# Altium integrated library NSC Interface Line Transceiver.IntLib: 158 symbols (part 1 of 4)
Pins are listed as number, name and electrical type; pins without a type are passive.

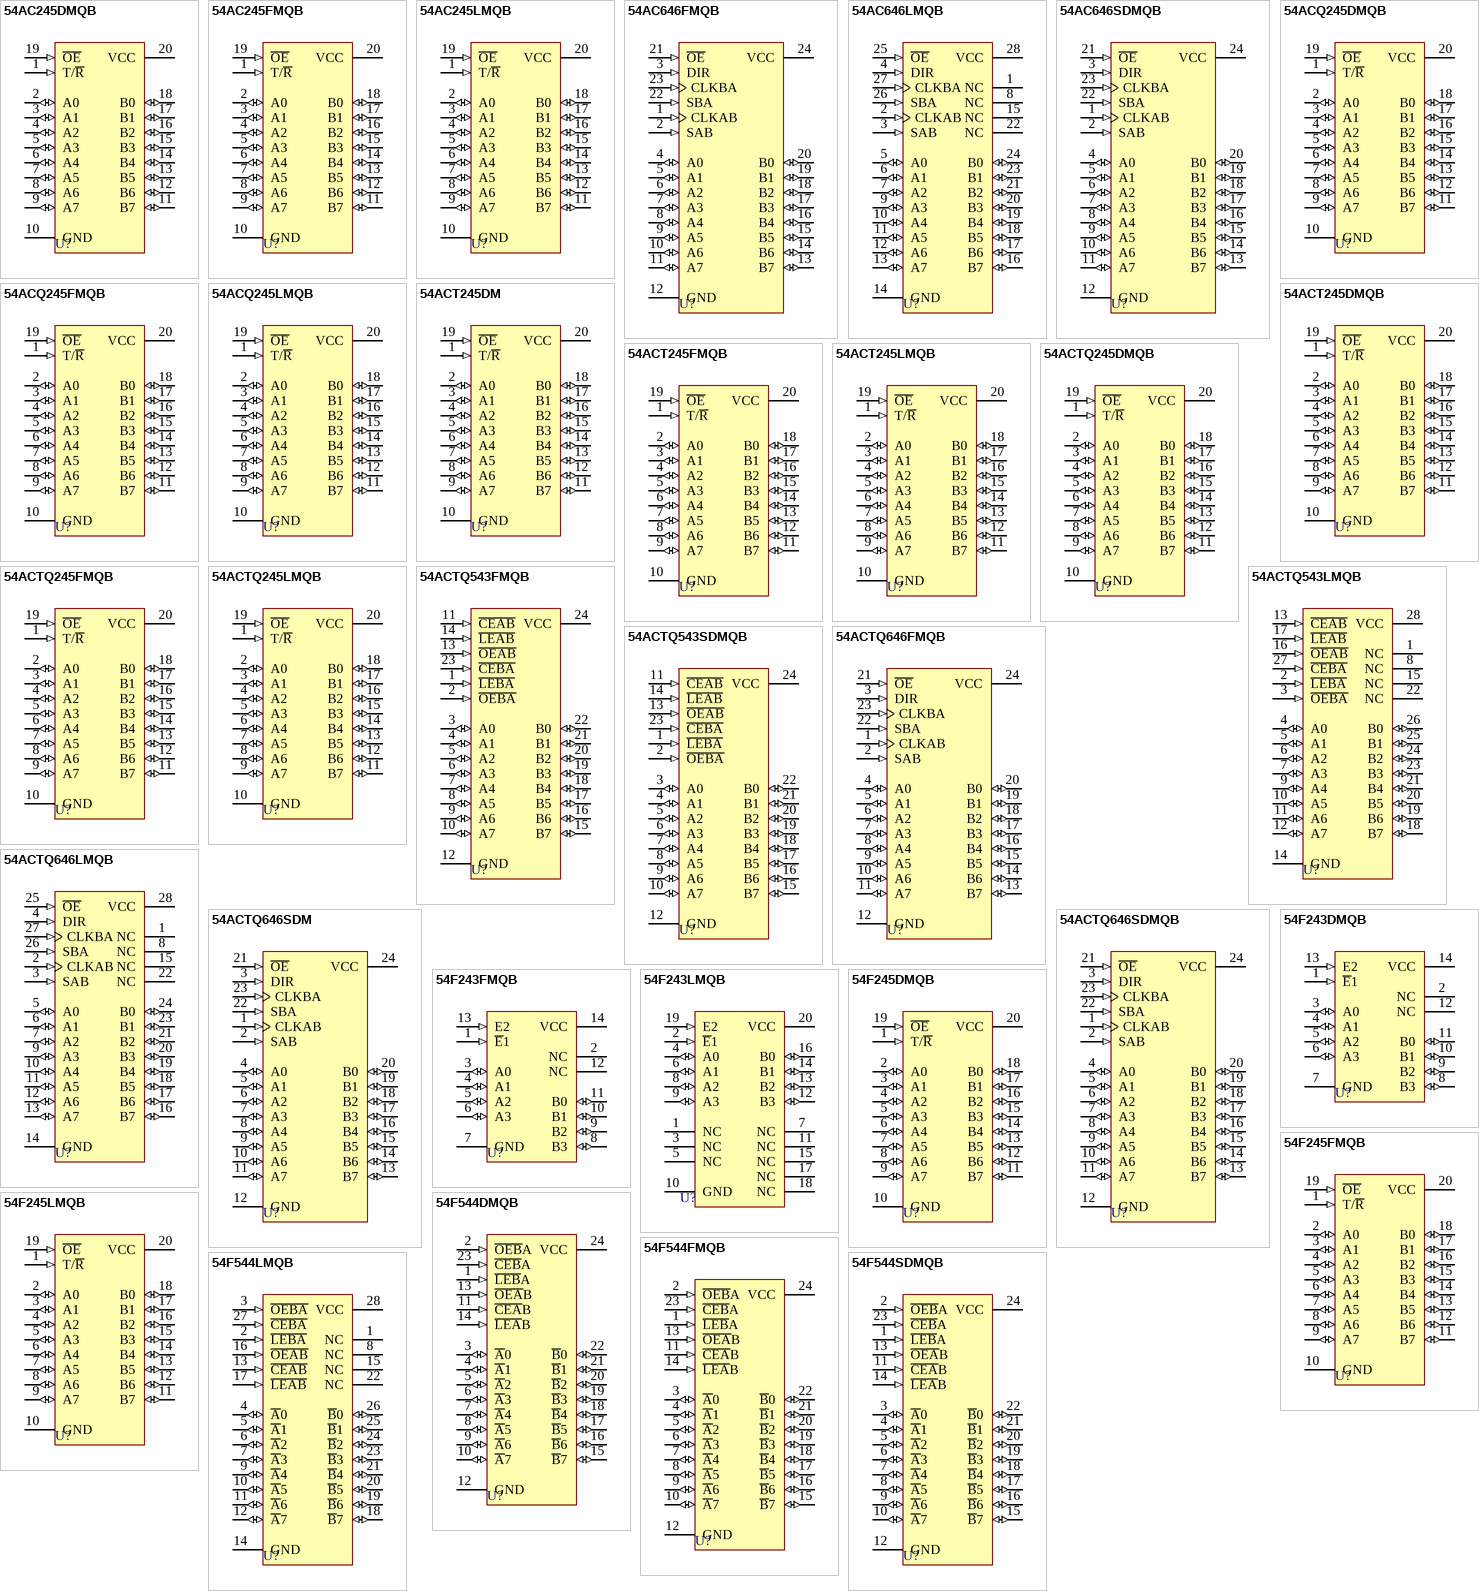
[diagram p0: symbols 54AC245DMQB to 54F544SDMQB]

## 54AC245DMQB
designator U?
Octal Bidirectional Transceiver with Tri-State Input/Output; Published: 15-Apr-2002; LatestRevisionDate: 06-Jun-2005; LatestRevisionNote: Stylized 3D Model Added.; DatasheetVersion: Jun-1996; PackageVersion: 2000; PackageReference: J20A; Publisher: Altium Limited; PackageDescription: DIP; 20 Leads; Row Spacing 7.62 mm; Pitch 2.54 mm; Code_JEDEC: MS-015-AE; ComponentLink1Description: Manufacturer Link; ComponentLink1URL: http://www.national.com/; ComponentLink2Description: Datasheet; ComponentLink2URL: http://www.national.com/ds.cgi/54/54AC245.pdf; ComponentLink3Description: URL Link1; ComponentLink3URL: http://www.national.com/pf/54/54AC245.html
footprint J20A (DIP; 20 Leads; Row Spacing 7.62 mm; Pitch 2.54 mm)
3D model J20A (DIP; 20 Leads; Row Spacing 7.62 mm; Pitch 2.54 mm)
signal-integrity model 54AC245DMQB
pins: 1 T/~{R} (in), 2 A0 (io), 3 A1 (io), 4 A2 (io), 5 A3 (io), 6 A4 (io), 7 A5 (io), 8 A6 (io), 9 A7 (io), 10 GND (power), 11 B7 (io), 12 B6 (io), 13 B5 (io), 14 B4 (io), 15 B3 (io), 16 B2 (io), 17 B1 (io), 18 B0 (io), 19 ~{OE} (in), 20 VCC (power)

## 54AC245FMQB
designator U?
Octal Bidirectional Transceiver with Tri-State Input/Output; Published: 15-Apr-2002; LatestRevisionDate: 06-Jun-2005; LatestRevisionNote: Stylized 3D Model Added.; DatasheetVersion: Jun-1996; PackageVersion: 2000; PackageReference: W20A; Publisher: Altium Limited; PackageDescription: DFP; 20 Leads; Body 13.7 x 7.2 mm (LxW max); Pitch 1.27 mm; ComponentLink1Description: Manufacturer Link; ComponentLink1URL: http://www.national.com/; ComponentLink2Description: Datasheet; ComponentLink2URL: http://www.national.com/ds.cgi/54/54AC245.pdf; ComponentLink3Description: URL Link1; ComponentLink3URL: http://www.national.com/pf/54/54AC245.html
footprint W20A (DFP; 20 Leads; Body 13.7 x 7.2 mm (LxW max); Pitch 1.27 mm)
3D model W20A (DFP; 20 Leads; Body 13.7 x 7.2 mm (LxW max); Pitch 1.27 mm)
signal-integrity model 54AC245FMQB
pins: 1 T/~{R} (in), 2 A0 (io), 3 A1 (io), 4 A2 (io), 5 A3 (io), 6 A4 (io), 7 A5 (io), 8 A6 (io), 9 A7 (io), 10 GND (power), 11 B7 (io), 12 B6 (io), 13 B5 (io), 14 B4 (io), 15 B3 (io), 16 B2 (io), 17 B1 (io), 18 B0 (io), 19 ~{OE} (in), 20 VCC (power)

## 54AC245LMQB
designator U?
Octal Bidirectional Transceiver with Tri-State Input/Output; Published: 15-Apr-2002; LatestRevisionDate: 11-Oct-2004; LatestRevisionNote: SIM Model for 74F device removed.; DatasheetVersion: Jun-1996; PackageVersion: 2000; PackageReference: E20A; Publisher: Altium Limited; PackageDescription: Leadless Chip Carrier; 20 Terminals; Body 8.9 x 8.9 mm; ComponentLink1Description: Manufacturer Link; ComponentLink1URL: http://www.national.com/; ComponentLink2Description: Datasheet; ComponentLink2URL: http://www.national.com/ds.cgi/54/54AC245.pdf; ComponentLink3Description: URL Link1; ComponentLink3URL: http://www.national.com/pf/54/54AC245.html
footprint E20A (Leadless Chip Carrier; 20 Terminals; Body 8.9 x 8.9 mm)
signal-integrity model 54AC245LMQB
pins: 1 T/~{R} (in), 2 A0 (io), 3 A1 (io), 4 A2 (io), 5 A3 (io), 6 A4 (io), 7 A5 (io), 8 A6 (io), 9 A7 (io), 10 GND (power), 11 B7 (io), 12 B6 (io), 13 B5 (io), 14 B4 (io), 15 B3 (io), 16 B2 (io), 17 B1 (io), 18 B0 (io), 19 ~{OE} (in), 20 VCC (power)

## 54AC646FMQB
designator U?
Octal Transceiver/Register with Tri-State Output; Published: 15-Apr-2002; LatestRevisionDate: 06-Jun-2005; LatestRevisionNote: Stylized 3D Model Added.; DatasheetVersion: Aug-1998; PackageVersion: 2000; PackageReference: W24C; Publisher: Altium Limited; PackageDescription: DFP; 24 Leads; Body 15.6 x 10.7 mm (LxW max); Pitch 1.27 mm; ComponentLink1Description: Manufacturer Link; ComponentLink1URL: http://www.national.com/; ComponentLink2Description: Datasheet; ComponentLink2URL: http://www.national.com/ds.cgi/54/54AC646.pdf; ComponentLink3Description: URL Link1; ComponentLink3URL: http://www.national.com/pf/54/54AC646.html
footprint W24C (DFP; 24 Leads; Body 15.6 x 10.7 mm (LxW max); Pitch 1.27 mm)
3D model W24C (DFP; 24 Leads; Body 15.6 x 10.7 mm (LxW max); Pitch 1.27 mm)
signal-integrity model 54AC646FMQB
pins: 1 CLKAB (in), 2 SAB (in), 3 DIR (in), 4 A0 (io), 5 A1 (io), 6 A2 (io), 7 A3 (io), 8 A4 (io), 9 A5 (io), 10 A6 (io), 11 A7 (io), 12 GND (power), 13 B7 (io), 14 B6 (io), 15 B5 (io), 16 B4 (io), 17 B3 (io), 18 B2 (io), 19 B1 (io), 20 B0 (io), 21 ~{OE} (in), 22 SBA (in), 23 CLKBA (in), 24 VCC (power)

## 54AC646LMQB
designator U?
Octal Transceiver/Register with Tri-State Output; ComponentAvailability: Obsolete; Published: 15-Apr-2002; DatasheetVersion: Aug-1998; PackageVersion: 2000; PackageReference: E28A; Publisher: Altium Limited; PackageDescription: Leadless Chip Carrier; 28 Terminals; Body 11.4 x 11.4 mm; ComponentLink1Description: Manufacturer Link; ComponentLink1URL: http://www.national.com/; ComponentLink2Description: Datasheet; ComponentLink2URL: http://www.national.com/ds.cgi/54/54AC646.pdf; ComponentLink3Description: Discontinuation Notice; ComponentLink3URL: http://www.national.com/obs/obsolescence.txt; ComponentLink4Description: URL Link1; ComponentLink4URL: http://www.national.com/pf/54/54AC646.html
footprint E28A (Leadless Chip Carrier; 28 Terminals; Body 11.4 x 11.4 mm)
signal-integrity model 54AC646LMQB
pins: 1 NC, 2 CLKAB (in), 3 SAB (in), 4 DIR (in), 5 A0 (io), 6 A1 (io), 7 A2 (io), 8 NC, 9 A3 (io), 10 A4 (io), 11 A5 (io), 12 A6 (io), 13 A7 (io), 14 GND (power), 15 NC, 16 B7 (io), 17 B6 (io), 18 B5 (io), 19 B4 (io), 20 B3 (io), 21 B2 (io), 22 NC, 23 B1 (io), 24 B0 (io), 25 ~{OE} (in), 26 SBA (in), 27 CLKBA (in), 28 VCC (power)

## 54AC646SDMQB
designator U?
Octal Transceiver/Register with Tri-State Output; Published: 15-Apr-2002; LatestRevisionDate: 06-Jun-2005; LatestRevisionNote: Stylized 3D Model Added.; DatasheetVersion: Aug-1998; PackageVersion: 2000; PackageReference: J24F; Publisher: Altium Limited; PackageDescription: DIP; 24 Leads; Row Spacing 7.62 mm; Pitch 2.54 mm; Code_JEDEC: MS-001-AF; ComponentLink1Description: Manufacturer Link; ComponentLink1URL: http://www.national.com/; ComponentLink2Description: Datasheet; ComponentLink2URL: http://www.national.com/ds.cgi/54/54AC646.pdf; ComponentLink3Description: URL Link1; ComponentLink3URL: http://www.national.com/pf/54/54AC646.html
footprint J24F (DIP; 24 Leads; Row Spacing 7.62 mm; Pitch 2.54 mm)
3D model J24F (DIP; 24 Leads; Row Spacing 7.62 mm; Pitch 2.54 mm)
signal-integrity model 54AC646SDMQB
pins: 1 CLKAB (in), 2 SAB (in), 3 DIR (in), 4 A0 (io), 5 A1 (io), 6 A2 (io), 7 A3 (io), 8 A4 (io), 9 A5 (io), 10 A6 (io), 11 A7 (io), 12 GND (power), 13 B7 (io), 14 B6 (io), 15 B5 (io), 16 B4 (io), 17 B3 (io), 18 B2 (io), 19 B1 (io), 20 B0 (io), 21 ~{OE} (in), 22 SBA (in), 23 CLKBA (in), 24 VCC (power)

## 54ACQ245DMQB
designator U?
Octal Bidirectional Transceiver with Tri-State Input/Output; Published: 15-Apr-2002; LatestRevisionDate: 06-Jun-2005; LatestRevisionNote: Stylized 3D Model Added.; DatasheetVersion: Sep-1998; PackageVersion: 2000; PackageReference: J20A; Publisher: Altium Limited; PackageDescription: DIP; 20 Leads; Row Spacing 7.62 mm; Pitch 2.54 mm; Code_JEDEC: MS-015-AE; ComponentLink1Description: Manufacturer Link; ComponentLink1URL: http://www.national.com/; ComponentLink2Description: Datasheet; ComponentLink2URL: http://www.national.com/ds.cgi/54/54ACQ245.pdf; ComponentLink3Description: URL Link1; ComponentLink3URL: http://www.national.com/pf/54/54ACQ245.html
footprint J20A (DIP; 20 Leads; Row Spacing 7.62 mm; Pitch 2.54 mm)
3D model J20A (DIP; 20 Leads; Row Spacing 7.62 mm; Pitch 2.54 mm)
pins: 1 T/~{R} (in), 2 A0 (io), 3 A1 (io), 4 A2 (io), 5 A3 (io), 6 A4 (io), 7 A5 (io), 8 A6 (io), 9 A7 (io), 10 GND (power), 11 B7 (io), 12 B6 (io), 13 B5 (io), 14 B4 (io), 15 B3 (io), 16 B2 (io), 17 B1 (io), 18 B0 (io), 19 ~{OE} (in), 20 VCC (power)

## 54ACQ245FMQB
designator U?
Octal Bidirectional Transceiver with Tri-State Input/Output; Published: 15-Apr-2002; LatestRevisionDate: 06-Jun-2005; LatestRevisionNote: Stylized 3D Model Added.; DatasheetVersion: Sep-1998; PackageVersion: 2000; PackageReference: W20A; Publisher: Altium Limited; PackageDescription: DFP; 20 Leads; Body 13.7 x 7.2 mm (LxW max); Pitch 1.27 mm; ComponentLink1Description: Manufacturer Link; ComponentLink1URL: http://www.national.com/; ComponentLink2Description: Datasheet; ComponentLink2URL: http://www.national.com/ds.cgi/54/54ACQ245.pdf; ComponentLink3Description: URL Link1; ComponentLink3URL: http://www.national.com/pf/54/54ACQ245.html
footprint W20A (DFP; 20 Leads; Body 13.7 x 7.2 mm (LxW max); Pitch 1.27 mm)
3D model W20A (DFP; 20 Leads; Body 13.7 x 7.2 mm (LxW max); Pitch 1.27 mm)
pins: 1 T/~{R} (in), 2 A0 (io), 3 A1 (io), 4 A2 (io), 5 A3 (io), 6 A4 (io), 7 A5 (io), 8 A6 (io), 9 A7 (io), 10 GND (power), 11 B7 (io), 12 B6 (io), 13 B5 (io), 14 B4 (io), 15 B3 (io), 16 B2 (io), 17 B1 (io), 18 B0 (io), 19 ~{OE} (in), 20 VCC (power)

## 54ACQ245LMQB
designator U?
Octal Bidirectional Transceiver with Tri-State Input/Output; Published: 15-Apr-2002; LatestRevisionDate: 11-Oct-2004; LatestRevisionNote: SIM Model for 74F device removed.; DatasheetVersion: Sep-1998; PackageVersion: 2000; PackageReference: E20A; Publisher: Altium Limited; PackageDescription: Leadless Chip Carrier; 20 Terminals; Body 8.9 x 8.9 mm; ComponentLink1Description: Manufacturer Link; ComponentLink1URL: http://www.national.com/; ComponentLink2Description: Datasheet; ComponentLink2URL: http://www.national.com/ds.cgi/54/54ACQ245.pdf; ComponentLink3Description: URL Link1; ComponentLink3URL: http://www.national.com/pf/54/54ACQ245.html
footprint E20A (Leadless Chip Carrier; 20 Terminals; Body 8.9 x 8.9 mm)
pins: 1 T/~{R} (in), 2 A0 (io), 3 A1 (io), 4 A2 (io), 5 A3 (io), 6 A4 (io), 7 A5 (io), 8 A6 (io), 9 A7 (io), 10 GND (power), 11 B7 (io), 12 B6 (io), 13 B5 (io), 14 B4 (io), 15 B3 (io), 16 B2 (io), 17 B1 (io), 18 B0 (io), 19 ~{OE} (in), 20 VCC (power)

## 54ACT245DM
designator U?
Octal Bidirectional Transceiver with Tri-State Input/Output; ComponentAvailability: Obsolete; Published: 15-Apr-2002; LatestRevisionDate: 06-Jun-2005; LatestRevisionNote: Stylized 3D Model Added.; DatasheetVersion: Jun-1996; PackageVersion: 2000; PackageReference: J20A; Publisher: Altium Limited; PackageDescription: DIP; 20 Leads; Row Spacing 7.62 mm; Pitch 2.54 mm; Code_JEDEC: MS-015-AE; ComponentLink1Description: Manufacturer Link; ComponentLink1URL: http://www.national.com/; ComponentLink2Description: Datasheet; ComponentLink2URL: http://www.national.com/ds.cgi/54/54AC245.pdf; ComponentLink3Description: Discontinuation Notice; ComponentLink3URL: http://www.national.com/obs/obsolescence.txt; ComponentLink4Description: URL Link1; ComponentLink4URL: http://www.national.com/pf/54/54ACT245.html
footprint J20A (DIP; 20 Leads; Row Spacing 7.62 mm; Pitch 2.54 mm)
3D model J20A (DIP; 20 Leads; Row Spacing 7.62 mm; Pitch 2.54 mm)
signal-integrity model 54ACT245DM
pins: 1 T/~{R} (in), 2 A0 (io), 3 A1 (io), 4 A2 (io), 5 A3 (io), 6 A4 (io), 7 A5 (io), 8 A6 (io), 9 A7 (io), 10 GND (power), 11 B7 (io), 12 B6 (io), 13 B5 (io), 14 B4 (io), 15 B3 (io), 16 B2 (io), 17 B1 (io), 18 B0 (io), 19 ~{OE} (in), 20 VCC (power)

## 54ACT245DMQB
designator U?
Octal Bidirectional Transceiver with Tri-State Input/Output; Published: 15-Apr-2002; LatestRevisionDate: 06-Jun-2005; LatestRevisionNote: Stylized 3D Model Added.; DatasheetVersion: Jun-1996; PackageVersion: 2000; PackageReference: J20A; Publisher: Altium Limited; PackageDescription: DIP; 20 Leads; Row Spacing 7.62 mm; Pitch 2.54 mm; Code_JEDEC: MS-015-AE; ComponentLink1Description: Manufacturer Link; ComponentLink1URL: http://www.national.com/; ComponentLink2Description: Datasheet; ComponentLink2URL: http://www.national.com/ds.cgi/54/54AC245.pdf; ComponentLink3Description: URL Link1; ComponentLink3URL: http://www.national.com/pf/54/54ACT245.html
footprint J20A (DIP; 20 Leads; Row Spacing 7.62 mm; Pitch 2.54 mm)
3D model J20A (DIP; 20 Leads; Row Spacing 7.62 mm; Pitch 2.54 mm)
signal-integrity model 54ACT245DMQB
pins: 1 T/~{R} (in), 2 A0 (io), 3 A1 (io), 4 A2 (io), 5 A3 (io), 6 A4 (io), 7 A5 (io), 8 A6 (io), 9 A7 (io), 10 GND (power), 11 B7 (io), 12 B6 (io), 13 B5 (io), 14 B4 (io), 15 B3 (io), 16 B2 (io), 17 B1 (io), 18 B0 (io), 19 ~{OE} (in), 20 VCC (power)

## 54ACT245FMQB
designator U?
Octal Bidirectional Transceiver with Tri-State Input/Output; Published: 15-Apr-2002; LatestRevisionDate: 06-Jun-2005; LatestRevisionNote: Stylized 3D Model Added.; DatasheetVersion: Jun-1996; PackageVersion: 2000; PackageReference: W20A; Publisher: Altium Limited; PackageDescription: DFP; 20 Leads; Body 13.7 x 7.2 mm (LxW max); Pitch 1.27 mm; ComponentLink1Description: Manufacturer Link; ComponentLink1URL: http://www.national.com/; ComponentLink2Description: Datasheet; ComponentLink2URL: http://www.national.com/ds.cgi/54/54AC245.pdf; ComponentLink3Description: URL Link1; ComponentLink3URL: http://www.national.com/pf/54/54ACT245.html
footprint W20A (DFP; 20 Leads; Body 13.7 x 7.2 mm (LxW max); Pitch 1.27 mm)
3D model W20A (DFP; 20 Leads; Body 13.7 x 7.2 mm (LxW max); Pitch 1.27 mm)
signal-integrity model 54ACT245FMQB
pins: 1 T/~{R} (in), 2 A0 (io), 3 A1 (io), 4 A2 (io), 5 A3 (io), 6 A4 (io), 7 A5 (io), 8 A6 (io), 9 A7 (io), 10 GND (power), 11 B7 (io), 12 B6 (io), 13 B5 (io), 14 B4 (io), 15 B3 (io), 16 B2 (io), 17 B1 (io), 18 B0 (io), 19 ~{OE} (in), 20 VCC (power)

## 54ACT245LMQB
designator U?
Octal Bidirectional Transceiver with Tri-State Input/Output; Published: 15-Apr-2002; LatestRevisionDate: 11-Oct-2004; LatestRevisionNote: SIM Model for 74F device removed.; DatasheetVersion: Jun-1996; PackageVersion: 2000; PackageReference: E20A; Publisher: Altium Limited; PackageDescription: Leadless Chip Carrier; 20 Terminals; Body 8.9 x 8.9 mm; ComponentLink1Description: Manufacturer Link; ComponentLink1URL: http://www.national.com/; ComponentLink2Description: Datasheet; ComponentLink2URL: http://www.national.com/ds.cgi/54/54AC245.pdf; ComponentLink3Description: URL Link1; ComponentLink3URL: http://www.national.com/pf/54/54ACT245.html
footprint E20A (Leadless Chip Carrier; 20 Terminals; Body 8.9 x 8.9 mm)
signal-integrity model 54ACT245LMQB
pins: 1 T/~{R} (in), 2 A0 (io), 3 A1 (io), 4 A2 (io), 5 A3 (io), 6 A4 (io), 7 A5 (io), 8 A6 (io), 9 A7 (io), 10 GND (power), 11 B7 (io), 12 B6 (io), 13 B5 (io), 14 B4 (io), 15 B3 (io), 16 B2 (io), 17 B1 (io), 18 B0 (io), 19 ~{OE} (in), 20 VCC (power)

## 54ACTQ245DMQB
designator U?
Octal Bidirectional Transceiver with Tri-State Input/Output; Published: 15-Apr-2002; LatestRevisionDate: 06-Jun-2005; LatestRevisionNote: Stylized 3D Model Added.; DatasheetVersion: Sep-1998; PackageVersion: 2000; PackageReference: J20A; Publisher: Altium Limited; PackageDescription: DIP; 20 Leads; Row Spacing 7.62 mm; Pitch 2.54 mm; Code_JEDEC: MS-015-AE; ComponentLink1Description: Manufacturer Link; ComponentLink1URL: http://www.national.com/; ComponentLink2Description: Datasheet; ComponentLink2URL: http://www.national.com/ds.cgi/54/54ACQ245.pdf; ComponentLink3Description: URL Link1; ComponentLink3URL: http://www.national.com/pf/54/54ACTQ245.html
footprint J20A (DIP; 20 Leads; Row Spacing 7.62 mm; Pitch 2.54 mm)
3D model J20A (DIP; 20 Leads; Row Spacing 7.62 mm; Pitch 2.54 mm)
pins: 1 T/~{R} (in), 2 A0 (io), 3 A1 (io), 4 A2 (io), 5 A3 (io), 6 A4 (io), 7 A5 (io), 8 A6 (io), 9 A7 (io), 10 GND (power), 11 B7 (io), 12 B6 (io), 13 B5 (io), 14 B4 (io), 15 B3 (io), 16 B2 (io), 17 B1 (io), 18 B0 (io), 19 ~{OE} (in), 20 VCC (power)

## 54ACTQ245FMQB
designator U?
Octal Bidirectional Transceiver with Tri-State Input/Output; Published: 15-Apr-2002; LatestRevisionDate: 06-Jun-2005; LatestRevisionNote: Stylized 3D Model Added.; DatasheetVersion: Sep-1998; PackageVersion: 2000; PackageReference: W20A; Publisher: Altium Limited; PackageDescription: DFP; 20 Leads; Body 13.7 x 7.2 mm (LxW max); Pitch 1.27 mm; ComponentLink1Description: Manufacturer Link; ComponentLink1URL: http://www.national.com/; ComponentLink2Description: Datasheet; ComponentLink2URL: http://www.national.com/ds.cgi/54/54ACQ245.pdf; ComponentLink3Description: URL Link1; ComponentLink3URL: http://www.national.com/pf/54/54ACTQ245.html
footprint W20A (DFP; 20 Leads; Body 13.7 x 7.2 mm (LxW max); Pitch 1.27 mm)
3D model W20A (DFP; 20 Leads; Body 13.7 x 7.2 mm (LxW max); Pitch 1.27 mm)
pins: 1 T/~{R} (in), 2 A0 (io), 3 A1 (io), 4 A2 (io), 5 A3 (io), 6 A4 (io), 7 A5 (io), 8 A6 (io), 9 A7 (io), 10 GND (power), 11 B7 (io), 12 B6 (io), 13 B5 (io), 14 B4 (io), 15 B3 (io), 16 B2 (io), 17 B1 (io), 18 B0 (io), 19 ~{OE} (in), 20 VCC (power)

## 54ACTQ245LMQB
designator U?
Octal Bidirectional Transceiver with Tri-State Input/Output; Published: 15-Apr-2002; LatestRevisionDate: 11-Oct-2004; LatestRevisionNote: SIM Model for 74F device removed.; DatasheetVersion: Sep-1998; PackageVersion: 2000; PackageReference: E20A; Publisher: Altium Limited; PackageDescription: Leadless Chip Carrier; 20 Terminals; Body 8.9 x 8.9 mm; ComponentLink1Description: Manufacturer Link; ComponentLink1URL: http://www.national.com/; ComponentLink2Description: Datasheet; ComponentLink2URL: http://www.national.com/ds.cgi/54/54ACQ245.pdf; ComponentLink3Description: URL Link1; ComponentLink3URL: http://www.national.com/pf/54/54ACTQ245.html
footprint E20A (Leadless Chip Carrier; 20 Terminals; Body 8.9 x 8.9 mm)
pins: 1 T/~{R} (in), 2 A0 (io), 3 A1 (io), 4 A2 (io), 5 A3 (io), 6 A4 (io), 7 A5 (io), 8 A6 (io), 9 A7 (io), 10 GND (power), 11 B7 (io), 12 B6 (io), 13 B5 (io), 14 B4 (io), 15 B3 (io), 16 B2 (io), 17 B1 (io), 18 B0 (io), 19 ~{OE} (in), 20 VCC (power)

## 54ACTQ543FMQB
designator U?
Octal Registered Transceiver with Tri-State Output; Published: 15-Apr-2002; LatestRevisionDate: 06-Jun-2005; LatestRevisionNote: Stylized 3D Model Added.; DatasheetVersion: Mar-1993; PackageVersion: 2000; PackageReference: W24C; Publisher: Altium Limited; PackageDescription: DFP; 24 Leads; Body 15.6 x 10.7 mm (LxW max); Pitch 1.27 mm; ComponentLink1Description: Manufacturer Link; ComponentLink1URL: http://www.national.com/; ComponentLink2Description: Datasheet; ComponentLink2URL: http://www.national.com/ds.cgi/54/54ACTQ543.pdf; ComponentLink3Description: URL Link1; ComponentLink3URL: http://www.national.com/pf/54/54ACTQ543.html
footprint W24C (DFP; 24 Leads; Body 15.6 x 10.7 mm (LxW max); Pitch 1.27 mm)
3D model W24C (DFP; 24 Leads; Body 15.6 x 10.7 mm (LxW max); Pitch 1.27 mm)
pins: 1 ~{LEBA} (in), 2 ~{OEBA} (in), 3 A0 (io), 4 A1 (io), 5 A2 (io), 6 A3 (io), 7 A4 (io), 8 A5 (io), 9 A6 (io), 10 A7 (io), 11 ~{CEAB} (in), 12 GND (power), 13 ~{OEAB} (in), 14 ~{LEAB} (in), 15 B7 (io), 16 B6 (io), 17 B5 (io), 18 B4 (io), 19 B3 (io), 20 B2 (io), 21 B1 (io), 22 B0 (io), 23 ~{CEBA} (in), 24 VCC (power)

## 54ACTQ543LMQB
designator U?
Octal Registered Transceiver with Tri-State Output; Published: 15-Apr-2002; DatasheetVersion: Mar-1993; PackageVersion: 2000; PackageReference: E28A; Publisher: Altium Limited; PackageDescription: Leadless Chip Carrier; 28 Terminals; Body 11.4 x 11.4 mm; ComponentLink1Description: Manufacturer Link; ComponentLink1URL: http://www.national.com/; ComponentLink2Description: Datasheet; ComponentLink2URL: http://www.national.com/ds.cgi/54/54ACTQ543.pdf; ComponentLink3Description: URL Link1; ComponentLink3URL: http://www.national.com/pf/54/54ACTQ543.html
footprint E28A (Leadless Chip Carrier; 28 Terminals; Body 11.4 x 11.4 mm)
pins: 1 NC, 2 ~{LEBA} (in), 3 ~{OEBA} (in), 4 A0 (io), 5 A1 (io), 6 A2 (io), 7 A3 (io), 8 NC, 9 A4 (io), 10 A5 (io), 11 A6 (io), 12 A7 (io), 13 ~{CEAB} (in), 14 GND (power), 15 NC, 16 ~{OEAB} (in), 17 ~{LEAB} (in), 18 B7 (io), 19 B6 (io), 20 B5 (io), 21 B4 (io), 22 NC, 23 B3 (io), 24 B2 (io), 25 B1 (io), 26 B0 (io), 27 ~{CEBA} (in), 28 VCC (power)

## 54ACTQ543SDMQB
designator U?
Octal Registered Transceiver with Tri-State Output; Published: 15-Apr-2002; LatestRevisionDate: 06-Jun-2005; LatestRevisionNote: Stylized 3D Model Added.; DatasheetVersion: Mar-1993; PackageVersion: 2000; PackageReference: J24F; Publisher: Altium Limited; PackageDescription: DIP; 24 Leads; Row Spacing 7.62 mm; Pitch 2.54 mm; Code_JEDEC: MS-001-AF; ComponentLink1Description: Manufacturer Link; ComponentLink1URL: http://www.national.com/; ComponentLink2Description: Datasheet; ComponentLink2URL: http://www.national.com/ds.cgi/54/54ACTQ543.pdf; ComponentLink3Description: URL Link1; ComponentLink3URL: http://www.national.com/pf/54/54ACTQ543.html
footprint J24F (DIP; 24 Leads; Row Spacing 7.62 mm; Pitch 2.54 mm)
3D model J24F (DIP; 24 Leads; Row Spacing 7.62 mm; Pitch 2.54 mm)
pins: 1 ~{LEBA} (in), 2 ~{OEBA} (in), 3 A0 (io), 4 A1 (io), 5 A2 (io), 6 A3 (io), 7 A4 (io), 8 A5 (io), 9 A6 (io), 10 A7 (io), 11 ~{CEAB} (in), 12 GND (power), 13 ~{OEAB} (in), 14 ~{LEAB} (in), 15 B7 (io), 16 B6 (io), 17 B5 (io), 18 B4 (io), 19 B3 (io), 20 B2 (io), 21 B1 (io), 22 B0 (io), 23 ~{CEBA} (in), 24 VCC (power)

## 54ACTQ646FMQB
designator U?
Octal Transceiver/Register with Tri-State Output; Published: 15-Apr-2002; LatestRevisionDate: 06-Jun-2005; LatestRevisionNote: Stylized 3D Model Added.; DatasheetVersion: Sep-1998; PackageVersion: 2000; PackageReference: W24C; Publisher: Altium Limited; PackageDescription: DFP; 24 Leads; Body 15.6 x 10.7 mm (LxW max); Pitch 1.27 mm; ComponentLink1Description: Manufacturer Link; ComponentLink1URL: http://www.national.com/; ComponentLink2Description: Datasheet; ComponentLink2URL: http://www.national.com/ds.cgi/54/54ACQ646.pdf; ComponentLink3Description: URL Link1; ComponentLink3URL: http://www.national.com/pf/54/54ACTQ646.html
footprint W24C (DFP; 24 Leads; Body 15.6 x 10.7 mm (LxW max); Pitch 1.27 mm)
3D model W24C (DFP; 24 Leads; Body 15.6 x 10.7 mm (LxW max); Pitch 1.27 mm)
pins: 1 CLKAB (in), 2 SAB (in), 3 DIR (in), 4 A0 (io), 5 A1 (io), 6 A2 (io), 7 A3 (io), 8 A4 (io), 9 A5 (io), 10 A6 (io), 11 A7 (io), 12 GND (power), 13 B7 (io), 14 B6 (io), 15 B5 (io), 16 B4 (io), 17 B3 (io), 18 B2 (io), 19 B1 (io), 20 B0 (io), 21 ~{OE} (in), 22 SBA (in), 23 CLKBA (in), 24 VCC (power)

## 54ACTQ646LMQB
designator U?
Octal Transceiver/Register with Tri-State Output; Published: 15-Apr-2002; DatasheetVersion: Sep-1998; PackageVersion: 2000; PackageReference: E28A; Publisher: Altium Limited; PackageDescription: Leadless Chip Carrier; 28 Terminals; Body 11.4 x 11.4 mm; ComponentLink1Description: Manufacturer Link; ComponentLink1URL: http://www.national.com/; ComponentLink2Description: Datasheet; ComponentLink2URL: http://www.national.com/ds.cgi/54/54ACQ646.pdf; ComponentLink3Description: URL Link1; ComponentLink3URL: http://www.national.com/pf/54/54ACTQ646.html
footprint E28A (Leadless Chip Carrier; 28 Terminals; Body 11.4 x 11.4 mm)
pins: 1 NC, 2 CLKAB (in), 3 SAB (in), 4 DIR (in), 5 A0 (io), 6 A1 (io), 7 A2 (io), 8 NC, 9 A3 (io), 10 A4 (io), 11 A5 (io), 12 A6 (io), 13 A7 (io), 14 GND (power), 15 NC, 16 B7 (io), 17 B6 (io), 18 B5 (io), 19 B4 (io), 20 B3 (io), 21 B2 (io), 22 NC, 23 B1 (io), 24 B0 (io), 25 ~{OE} (in), 26 SBA (in), 27 CLKBA (in), 28 VCC (power)

## 54ACTQ646SDM
designator U?
Octal Transceiver/Register with Tri-State Output; ComponentAvailability: Obsolete; Published: 15-Apr-2002; LatestRevisionDate: 06-Jun-2005; LatestRevisionNote: Stylized 3D Model Added.; DatasheetVersion: Sep-1998; PackageVersion: 2000; PackageReference: J24A; Publisher: Altium Limited; PackageDescription: DIP; 24 Leads; Row Spacing 15.24 mm; Pitch 2.54 mm; ComponentLink1Description: Manufacturer Link; ComponentLink1URL: http://www.national.com/; ComponentLink2Description: Datasheet; ComponentLink2URL: http://www.national.com/ds.cgi/54/54ACQ646.pdf; ComponentLink3Description: Discontinuation Notice; ComponentLink3URL: http://www.national.com/obs/obsolescence.txt; ComponentLink4Description: URL Link1; ComponentLink4URL: http://www.national.com/pf/54/54ACTQ646.html
footprint J24A (DIP; 24 Leads; Row Spacing 15.24 mm; Pitch 2.54 mm)
3D model J24A (DIP; 24 Leads; Row Spacing 15.24 mm; Pitch 2.54 mm)
pins: 1 CLKAB (in), 2 SAB (in), 3 DIR (in), 4 A0 (io), 5 A1 (io), 6 A2 (io), 7 A3 (io), 8 A4 (io), 9 A5 (io), 10 A6 (io), 11 A7 (io), 12 GND (power), 13 B7 (io), 14 B6 (io), 15 B5 (io), 16 B4 (io), 17 B3 (io), 18 B2 (io), 19 B1 (io), 20 B0 (io), 21 ~{OE} (in), 22 SBA (in), 23 CLKBA (in), 24 VCC (power)

## 54ACTQ646SDMQB
designator U?
Octal Transceiver/Register with Tri-State Output; Published: 15-Apr-2002; LatestRevisionDate: 06-Jun-2005; LatestRevisionNote: Stylized 3D Model Added.; DatasheetVersion: Sep-1998; PackageVersion: 2000; PackageReference: J24A; Publisher: Altium Limited; PackageDescription: DIP; 24 Leads; Row Spacing 15.24 mm; Pitch 2.54 mm; ComponentLink1Description: Manufacturer Link; ComponentLink1URL: http://www.national.com/; ComponentLink2Description: Datasheet; ComponentLink2URL: http://www.national.com/ds.cgi/54/54ACQ646.pdf; ComponentLink3Description: URL Link1; ComponentLink3URL: http://www.national.com/pf/54/54ACTQ646.html
footprint J24A (DIP; 24 Leads; Row Spacing 15.24 mm; Pitch 2.54 mm)
3D model J24A (DIP; 24 Leads; Row Spacing 15.24 mm; Pitch 2.54 mm)
pins: 1 CLKAB (in), 2 SAB (in), 3 DIR (in), 4 A0 (io), 5 A1 (io), 6 A2 (io), 7 A3 (io), 8 A4 (io), 9 A5 (io), 10 A6 (io), 11 A7 (io), 12 GND (power), 13 B7 (io), 14 B6 (io), 15 B5 (io), 16 B4 (io), 17 B3 (io), 18 B2 (io), 19 B1 (io), 20 B0 (io), 21 ~{OE} (in), 22 SBA (in), 23 CLKBA (in), 24 VCC (power)

## 54F243DMQB
designator U?
Quad Bus Transceiver with Tri-State Output; ComponentAvailability: Obsolete; Published: 15-Apr-2002; LatestRevisionDate: 06-Jun-2005; LatestRevisionNote: Stylized 3D Model Added.; DatasheetVersion: Nov-1994; PackageVersion: 2000; PackageReference: J14A; Publisher: Altium Limited; PackageDescription: DIP; 14 Leads; Row Spacing 7.62 mm; Pitch 2.54 mm; ComponentLink1Description: Manufacturer Link; ComponentLink1URL: http://www.national.com/; ComponentLink2Description: Datasheet; ComponentLink2URL: http://www.national.com/ds.cgi/54/54F243.pdf; ComponentLink3Description: Discontinuation Notice; ComponentLink3URL: http://www.national.com/obs/obsolescence.txt; ComponentLink4Description: URL Link1; ComponentLink4URL: http://www.national.com/pf/54/54F243.html
footprint J14A (DIP; 14 Leads; Row Spacing 7.62 mm; Pitch 2.54 mm)
3D model J14A (DIP; 14 Leads; Row Spacing 7.62 mm; Pitch 2.54 mm)
simulation model 74F243 (SIMCODE)
signal-integrity model 54F243DMQB
pins: 1 ~{E}1 (in), 2 NC, 3 A0 (io), 4 A1 (io), 5 A2 (io), 6 A3 (io), 7 GND (power), 8 B3 (io), 9 B2 (io), 10 B1 (io), 11 B0 (io), 12 NC, 13 E2 (in), 14 VCC (power)

## 54F243FMQB
designator U?
Quad Bus Transceiver with Tri-State Output; ComponentAvailability: Obsolete; Published: 15-Apr-2002; LatestRevisionDate: 06-Jun-2005; LatestRevisionNote: Stylized 3D Model Added.; DatasheetVersion: Nov-1994; PackageVersion: 1990; PackageReference: W14B; Publisher: Altium Limited; PackageDescription: DFP; 14 Leads; Body 9.8 x 7.1 mm (LxW max); Pitch 1.27 mm; ComponentLink1Description: Manufacturer Link; ComponentLink1URL: http://www.national.com/; ComponentLink2Description: Datasheet; ComponentLink2URL: http://www.national.com/ds.cgi/54/54F243.pdf; ComponentLink3Description: Discontinuation Notice; ComponentLink3URL: http://www.national.com/obs/obsolescence.txt; ComponentLink4Description: URL Link1; ComponentLink4URL: http://www.national.com/pf/54/54F243.html
footprint W14B (DFP; 14 Leads; Body 9.8 x 7.1 mm (LxW max); Pitch 1.27 mm)
3D model W14B (DFP; 14 Leads; Body 9.8 x 7.1 mm (LxW max); Pitch 1.27 mm)
simulation model 74F243 (SIMCODE)
signal-integrity model 54F243FMQB
pins: 1 ~{E}1 (in), 2 NC, 3 A0 (io), 4 A1 (io), 5 A2 (io), 6 A3 (io), 7 GND (power), 8 B3 (io), 9 B2 (io), 10 B1 (io), 11 B0 (io), 12 NC, 13 E2 (in), 14 VCC (power)

## 54F243LMQB
designator U?
Quad Bus Transceiver with Tri-State Output; Published: 15-Apr-2002; DatasheetVersion: Nov-1994; PackageVersion: 2000; PackageReference: E20A; Publisher: Altium Limited; PackageDescription: Leadless Chip Carrier; 20 Terminals; Body 8.9 x 8.9 mm; ComponentLink1Description: Manufacturer Link; ComponentLink1URL: http://www.national.com/; ComponentLink2Description: Datasheet; ComponentLink2URL: http://www.national.com/ds.cgi/54/54F243.pdf; ComponentLink3Description: URL Link1; ComponentLink3URL: http://www.national.com/pf/54/54F243.html
footprint E20A (Leadless Chip Carrier; 20 Terminals; Body 8.9 x 8.9 mm)
simulation model 74F243 (SIMCODE)
signal-integrity model 54F243LMQB
pins: 1 NC, 2 ~{E}1 (in), 3 NC, 4 A0 (io), 5 NC, 6 A1 (io), 7 NC, 8 A2 (io), 9 A3 (io), 10 GND (power), 11 NC, 12 B3 (io), 13 B2 (io), 14 B1 (io), 15 NC, 16 B0 (io), 17 NC, 18 NC, 19 E2 (in), 20 VCC (power)

## 54F245DMQB
designator U?
Octal Bidirectional Transceiver with Tri-State Output; Published: 15-Apr-2002; LatestRevisionDate: 06-Jun-2005; LatestRevisionNote: Stylized 3D Model Added.; DatasheetVersion: Jun-1995; PackageVersion: 2000; PackageReference: J20A; Publisher: Altium Limited; PackageDescription: DIP; 20 Leads; Row Spacing 7.62 mm; Pitch 2.54 mm; Code_JEDEC: MS-015-AE; ComponentLink1Description: Manufacturer Link; ComponentLink1URL: http://www.national.com/; ComponentLink2Description: Datasheet; ComponentLink2URL: http://www.national.com/ds.cgi/54/54F245.pdf; ComponentLink3Description: URL Link1; ComponentLink3URL: http://www.national.com/pf/54/54F245.html
footprint J20A (DIP; 20 Leads; Row Spacing 7.62 mm; Pitch 2.54 mm)
3D model J20A (DIP; 20 Leads; Row Spacing 7.62 mm; Pitch 2.54 mm)
simulation model 74F245 (SIMCODE)
signal-integrity model 54F245DMQB
pins: 1 T/~{R} (in), 2 A0 (io), 3 A1 (io), 4 A2 (io), 5 A3 (io), 6 A4 (io), 7 A5 (io), 8 A6 (io), 9 A7 (io), 10 GND (power), 11 B7 (io), 12 B6 (io), 13 B5 (io), 14 B4 (io), 15 B3 (io), 16 B2 (io), 17 B1 (io), 18 B0 (io), 19 ~{OE} (in), 20 VCC (power)

## 54F245FMQB
designator U?
Octal Bidirectional Transceiver with Tri-State Output; Published: 15-Apr-2002; LatestRevisionDate: 06-Jun-2005; LatestRevisionNote: Stylized 3D Model Added.; DatasheetVersion: Jun-1995; PackageVersion: 2000; PackageReference: W20A; Publisher: Altium Limited; PackageDescription: DFP; 20 Leads; Body 13.7 x 7.2 mm (LxW max); Pitch 1.27 mm; ComponentLink1Description: Manufacturer Link; ComponentLink1URL: http://www.national.com/; ComponentLink2Description: Datasheet; ComponentLink2URL: http://www.national.com/ds.cgi/54/54F245.pdf; ComponentLink3Description: URL Link1; ComponentLink3URL: http://www.national.com/pf/54/54F245.html
footprint W20A (DFP; 20 Leads; Body 13.7 x 7.2 mm (LxW max); Pitch 1.27 mm)
3D model W20A (DFP; 20 Leads; Body 13.7 x 7.2 mm (LxW max); Pitch 1.27 mm)
simulation model 74F245 (SIMCODE)
signal-integrity model 54F245FMQB
pins: 1 T/~{R} (in), 2 A0 (io), 3 A1 (io), 4 A2 (io), 5 A3 (io), 6 A4 (io), 7 A5 (io), 8 A6 (io), 9 A7 (io), 10 GND (power), 11 B7 (io), 12 B6 (io), 13 B5 (io), 14 B4 (io), 15 B3 (io), 16 B2 (io), 17 B1 (io), 18 B0 (io), 19 ~{OE} (in), 20 VCC (power)

## 54F245LMQB
designator U?
Octal Bidirectional Transceiver with Tri-State Output; Published: 15-Apr-2002; DatasheetVersion: Jun-1995; PackageVersion: 2000; PackageReference: E20A; Publisher: Altium Limited; PackageDescription: Leadless Chip Carrier; 20 Terminals; Body 8.9 x 8.9 mm; ComponentLink1Description: Manufacturer Link; ComponentLink1URL: http://www.national.com/; ComponentLink2Description: Datasheet; ComponentLink2URL: http://www.national.com/ds.cgi/54/54F245.pdf; ComponentLink3Description: URL Link1; ComponentLink3URL: http://www.national.com/pf/54/54F245.html
footprint E20A (Leadless Chip Carrier; 20 Terminals; Body 8.9 x 8.9 mm)
simulation model 74F245 (SIMCODE)
signal-integrity model 54F245LMQB
pins: 1 T/~{R} (in), 2 A0 (io), 3 A1 (io), 4 A2 (io), 5 A3 (io), 6 A4 (io), 7 A5 (io), 8 A6 (io), 9 A7 (io), 10 GND (power), 11 B7 (io), 12 B6 (io), 13 B5 (io), 14 B4 (io), 15 B3 (io), 16 B2 (io), 17 B1 (io), 18 B0 (io), 19 ~{OE} (in), 20 VCC (power)

## 54F544DMQB
designator U?
Octal Registered Transceiver; Published: 15-Apr-2002; LatestRevisionDate: 06-Jun-2005; LatestRevisionNote: Stylized 3D Model Added.; DatasheetVersion: Dec-1994; PackageVersion: 2000; PackageReference: J24A; Publisher: Altium Limited; PackageDescription: DIP; 24 Leads; Row Spacing 15.24 mm; Pitch 2.54 mm; ComponentLink1Description: Manufacturer Link; ComponentLink1URL: http://www.national.com/; ComponentLink2Description: Datasheet; ComponentLink2URL: http://www.national.com/ds.cgi/54/54F544.pdf; ComponentLink3Description: URL Link1; ComponentLink3URL: http://www.national.com/pf/54/54F544.html
footprint J24A (DIP; 24 Leads; Row Spacing 15.24 mm; Pitch 2.54 mm)
3D model J24A (DIP; 24 Leads; Row Spacing 15.24 mm; Pitch 2.54 mm)
signal-integrity model 54F544DMQB
pins: 1 ~{LEB}A (in), 2 ~{OEB}A (in), 3 ~{A}0 (io), 4 ~{A}1 (io), 5 ~{A}2 (io), 6 ~{A}3 (io), 7 ~{A}4 (io), 8 ~{A}5 (io), 9 ~{A}6 (io), 10 ~{A}7 (io), 11 ~{CEA}B (in), 12 GND (power), 13 ~{OEA}B (in), 14 ~{LEA}B (in), 15 ~{B}7 (io), 16 ~{B}6 (io), 17 ~{B}5 (io), 18 ~{B}4 (io), 19 ~{B}3 (io), 20 ~{B}2 (io), 21 ~{B}1 (io), 22 ~{B}0 (io), 23 ~{CEB}A (in), 24 VCC (power)

## 54F544FMQB
designator U?
Octal Registered Transceiver; ComponentAvailability: Obsolete; Published: 15-Apr-2002; LatestRevisionDate: 06-Jun-2005; LatestRevisionNote: Stylized 3D Model Added.; DatasheetVersion: Dec-1994; PackageVersion: 2000; PackageReference: W24C; Publisher: Altium Limited; PackageDescription: DFP; 24 Leads; Body 15.6 x 10.7 mm (LxW max); Pitch 1.27 mm; ComponentLink1Description: Manufacturer Link; ComponentLink1URL: http://www.national.com/; ComponentLink2Description: Datasheet; ComponentLink2URL: http://www.national.com/ds.cgi/54/54F544.pdf; ComponentLink3Description: Discontinuation Notice; ComponentLink3URL: http://www.national.com/obs/obsolescence.txt; ComponentLink4Description: URL Link1; ComponentLink4URL: http://www.national.com/pf/54/54F544.html
footprint W24C (DFP; 24 Leads; Body 15.6 x 10.7 mm (LxW max); Pitch 1.27 mm)
3D model W24C (DFP; 24 Leads; Body 15.6 x 10.7 mm (LxW max); Pitch 1.27 mm)
signal-integrity model 54F544FMQB
pins: 1 ~{LEB}A (in), 2 ~{OEB}A (in), 3 ~{A}0 (io), 4 ~{A}1 (io), 5 ~{A}2 (io), 6 ~{A}3 (io), 7 ~{A}4 (io), 8 ~{A}5 (io), 9 ~{A}6 (io), 10 ~{A}7 (io), 11 ~{CEA}B (in), 12 GND (power), 13 ~{OEA}B (in), 14 ~{LEA}B (in), 15 ~{B}7 (io), 16 ~{B}6 (io), 17 ~{B}5 (io), 18 ~{B}4 (io), 19 ~{B}3 (io), 20 ~{B}2 (io), 21 ~{B}1 (io), 22 ~{B}0 (io), 23 ~{CEB}A (in), 24 VCC (power)

## 54F544LMQB
designator U?
Octal Registered Transceiver; Published: 15-Apr-2002; DatasheetVersion: Dec-1994; PackageVersion: 2000; PackageReference: E28A; Publisher: Altium Limited; PackageDescription: Leadless Chip Carrier; 28 Terminals; Body 11.4 x 11.4 mm; ComponentLink1Description: Manufacturer Link; ComponentLink1URL: http://www.national.com/; ComponentLink2Description: Datasheet; ComponentLink2URL: http://www.national.com/ds.cgi/54/54F544.pdf; ComponentLink3Description: URL Link1; ComponentLink3URL: http://www.national.com/pf/54/54F544.html
footprint E28A (Leadless Chip Carrier; 28 Terminals; Body 11.4 x 11.4 mm)
signal-integrity model 54F544LMQB
pins: 1 NC, 2 ~{LEBA} (in), 3 ~{OEBA} (in), 4 ~{A}0 (io), 5 ~{A}1 (io), 6 ~{A}2 (io), 7 ~{A}3 (io), 8 NC, 9 ~{A}4 (io), 10 ~{A}5 (io), 11 ~{A}6 (io), 12 ~{A}7 (io), 13 ~{CEAB} (in), 14 GND (power), 15 NC, 16 ~{OEAB} (in), 17 ~{LEAB} (in), 18 ~{B}7 (io), 19 ~{B}6 (io), 20 ~{B}5 (io), 21 ~{B}4 (io), 22 NC, 23 ~{B}3 (io), 24 ~{B}2 (io), 25 ~{B}1 (io), 26 ~{B}0 (io), 27 ~{CEBA} (in), 28 VCC (power)

## 54F544SDMQB
designator U?
Octal Registered Transceiver; ComponentAvailability: Obsolete; Published: 15-Apr-2002; LatestRevisionDate: 06-Jun-2005; LatestRevisionNote: Stylized 3D Model Added.; DatasheetVersion: Dec-1994; PackageVersion: 2000; PackageReference: J24F; Publisher: Altium Limited; PackageDescription: DIP; 24 Leads; Row Spacing 7.62 mm; Pitch 2.54 mm; Code_JEDEC: MS-001-AF; ComponentLink1Description: Manufacturer Link; ComponentLink1URL: http://www.national.com/; ComponentLink2Description: Datasheet; ComponentLink2URL: http://www.national.com/ds.cgi/54/54F544.pdf; ComponentLink3Description: Discontinuation Notice; ComponentLink3URL: http://www.national.com/obs/obsolescence.txt; ComponentLink4Description: URL Link1; ComponentLink4URL: http://www.national.com/pf/54/54F544.html
footprint J24F (DIP; 24 Leads; Row Spacing 7.62 mm; Pitch 2.54 mm)
3D model J24F (DIP; 24 Leads; Row Spacing 7.62 mm; Pitch 2.54 mm)
signal-integrity model 54F544SDMQB
pins: 1 ~{LEB}A (in), 2 ~{OEB}A (in), 3 ~{A}0 (io), 4 ~{A}1 (io), 5 ~{A}2 (io), 6 ~{A}3 (io), 7 ~{A}4 (io), 8 ~{A}5 (io), 9 ~{A}6 (io), 10 ~{A}7 (io), 11 ~{CEA}B (in), 12 GND (power), 13 ~{OEA}B (in), 14 ~{LEA}B (in), 15 ~{B}7 (io), 16 ~{B}6 (io), 17 ~{B}5 (io), 18 ~{B}4 (io), 19 ~{B}3 (io), 20 ~{B}2 (io), 21 ~{B}1 (io), 22 ~{B}0 (io), 23 ~{CEB}A (in), 24 VCC (power)

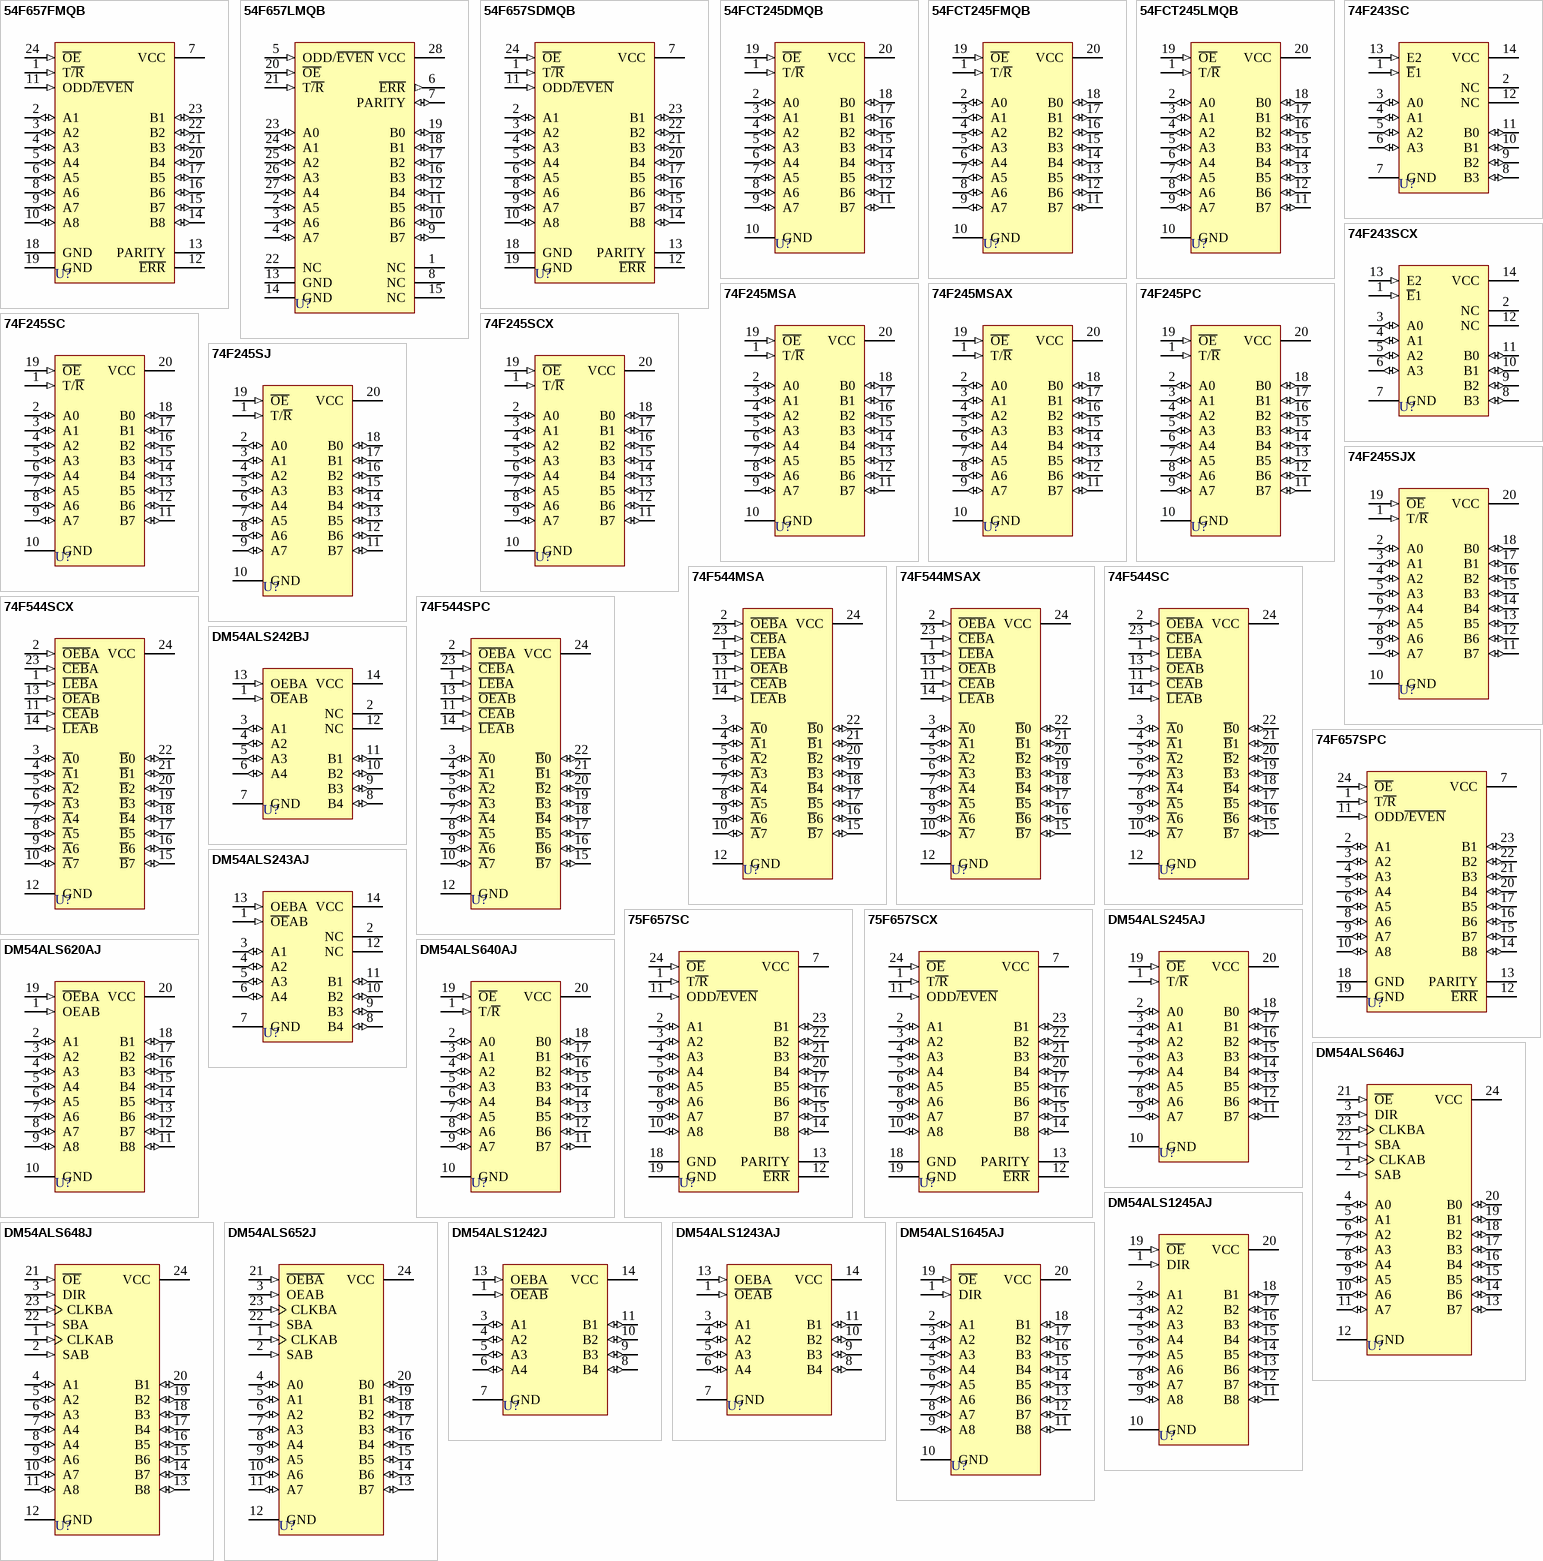
[diagram p1: symbols 54F657FMQB to DM54ALS1645AJ]

## 54F657FMQB
designator U?
Octal Bidirectional Transceiver with 8-Bit Parity Generator/Checker and Tri-State Output; ComponentAvailability: Obsolete; Published: 15-Apr-2002; LatestRevisionDate: 06-Jun-2005; LatestRevisionNote: Stylized 3D Model Added.; DatasheetVersion: Dec-1994; PackageVersion: 2000; PackageReference: W24C; Publisher: Altium Limited; PackageDescription: DFP; 24 Leads; Body 15.6 x 10.7 mm (LxW max); Pitch 1.27 mm; ComponentLink1Description: Manufacturer Link; ComponentLink1URL: http://www.national.com/; ComponentLink2Description: Datasheet; ComponentLink2URL: http://www.national.com/ds.cgi/54/54F657.pdf; ComponentLink3Description: Discontinuation Notice; ComponentLink3URL: http://www.national.com/obs/obsolescence.txt; ComponentLink4Description: URL Link1; ComponentLink4URL: http://www.national.com/pf/54/54F657.html
footprint W24C (DFP; 24 Leads; Body 15.6 x 10.7 mm (LxW max); Pitch 1.27 mm)
3D model W24C (DFP; 24 Leads; Body 15.6 x 10.7 mm (LxW max); Pitch 1.27 mm)
signal-integrity model 54F657FMQB
pins: 1 T~{/R} (in), 2 A1 (io), 3 A2 (io), 4 A3 (io), 5 A4 (io), 6 A5 (io), 7 VCC (power), 8 A6 (io), 9 A7 (io), 10 A8 (io), 11 ODD~{/EVEN} (in), 12 ~{ERR} (hiz), 13 PARITY (hiz), 14 B8 (io), 15 B7 (io), 16 B6 (io), 17 B5 (io), 18 GND (power), 19 GND (power), 20 B4 (io), 21 B3 (io), 22 B2 (io), 23 B1 (io), 24 ~{OE} (in)

## 54F657LMQB
designator U?
Octal Bidirectional Transceiver with 8-Bit Parity Generator/Checker and Tri-State Output; ComponentAvailability: Obsolete; Published: 15-Apr-2002; DatasheetVersion: Dec-1994; PackageVersion: 2000; PackageReference: E28A; Publisher: Altium Limited; PackageDescription: Leadless Chip Carrier; 28 Terminals; Body 11.4 x 11.4 mm; ComponentLink1Description: Manufacturer Link; ComponentLink1URL: http://www.national.com/; ComponentLink2Description: Datasheet; ComponentLink2URL: http://www.national.com/ds.cgi/54/54F657.pdf; ComponentLink3Description: Discontinuation Notice; ComponentLink3URL: http://www.national.com/obs/obsolescence.txt; ComponentLink4Description: URL Link1; ComponentLink4URL: http://www.national.com/pf/54/54F657.html
footprint E28A (Leadless Chip Carrier; 28 Terminals; Body 11.4 x 11.4 mm)
signal-integrity model 54F657LMQB
pins: 1 NC, 2 A5 (io), 3 A6 (io), 4 A7 (io), 5 ODD/~{EVEN} (in), 6 ~{ERR} (out), 7 PARITY (io), 8 NC, 9 B7 (io), 10 B6 (io), 11 B5 (io), 12 B4 (io), 13 GND (power), 14 GND (power), 15 NC, 16 B3 (io), 17 B2 (io), 18 B1 (io), 19 B0 (io), 20 ~{OE} (in), 21 T~{/R} (in), 22 NC, 23 A0 (io), 24 A1 (io), 25 A2 (io), 26 A3 (io), 27 A4 (io), 28 VCC (power)

## 54F657SDMQB
designator U?
Octal Bidirectional Transceiver with 8-Bit Parity Generator/Checker and Tri-State Output; ComponentAvailability: Obsolete; Published: 15-Apr-2002; LatestRevisionDate: 06-Jun-2005; LatestRevisionNote: Stylized 3D Model Added.; DatasheetVersion: Dec-1994; PackageVersion: 2000; PackageReference: J24F; Publisher: Altium Limited; PackageDescription: DIP; 24 Leads; Row Spacing 7.62 mm; Pitch 2.54 mm; Code_JEDEC: MS-001-AF; ComponentLink1Description: Manufacturer Link; ComponentLink1URL: http://www.national.com/; ComponentLink2Description: Datasheet; ComponentLink2URL: http://www.national.com/ds.cgi/54/54F657.pdf; ComponentLink3Description: Discontinuation Notice; ComponentLink3URL: http://www.national.com/obs/obsolescence.txt; ComponentLink4Description: URL Link1; ComponentLink4URL: http://www.national.com/pf/54/54F657.html
footprint J24F (DIP; 24 Leads; Row Spacing 7.62 mm; Pitch 2.54 mm)
3D model J24F (DIP; 24 Leads; Row Spacing 7.62 mm; Pitch 2.54 mm)
signal-integrity model 54F657SDMQB
pins: 1 T~{/R} (in), 2 A1 (io), 3 A2 (io), 4 A3 (io), 5 A4 (io), 6 A5 (io), 7 VCC (power), 8 A6 (io), 9 A7 (io), 10 A8 (io), 11 ODD~{/EVEN} (in), 12 ~{ERR} (hiz), 13 PARITY (hiz), 14 B8 (io), 15 B7 (io), 16 B6 (io), 17 B5 (io), 18 GND (power), 19 GND (power), 20 B4 (io), 21 B3 (io), 22 B2 (io), 23 B1 (io), 24 ~{OE} (in)

## 54FCT245DMQB
designator U?
Octal Bidirectional Transceiver with Tri-State Output; Published: 15-Apr-2002; LatestRevisionDate: 06-Jun-2005; LatestRevisionNote: Stylized 3D Model Added.; DatasheetVersion: Aug-1998; PackageVersion: 2000; PackageReference: J20A; Publisher: Altium Limited; PackageDescription: DIP; 20 Leads; Row Spacing 7.62 mm; Pitch 2.54 mm; Code_JEDEC: MS-015-AE; ComponentLink1Description: Manufacturer Link; ComponentLink1URL: http://www.national.com/; ComponentLink2Description: Datasheet; ComponentLink2URL: http://www.national.com/ds.cgi/54/54FCT245.pdf; ComponentLink3Description: URL Link1; ComponentLink3URL: http://www.national.com/pf/54/54FCT245.html
footprint J20A (DIP; 20 Leads; Row Spacing 7.62 mm; Pitch 2.54 mm)
3D model J20A (DIP; 20 Leads; Row Spacing 7.62 mm; Pitch 2.54 mm)
simulation model 74F245 (SIMCODE)
signal-integrity model 54FCT245DMQB
pins: 1 T/~{R} (in), 2 A0 (io), 3 A1 (io), 4 A2 (io), 5 A3 (io), 6 A4 (io), 7 A5 (io), 8 A6 (io), 9 A7 (io), 10 GND (power), 11 B7 (io), 12 B6 (io), 13 B5 (io), 14 B4 (io), 15 B3 (io), 16 B2 (io), 17 B1 (io), 18 B0 (io), 19 ~{OE} (in), 20 VCC (power)

## 54FCT245FMQB
designator U?
Octal Bidirectional Transceiver with Tri-State Output; Published: 15-Apr-2002; LatestRevisionDate: 06-Jun-2005; LatestRevisionNote: Stylized 3D Model Added.; DatasheetVersion: Aug-1998; PackageVersion: 2000; PackageReference: W20A; Publisher: Altium Limited; PackageDescription: DFP; 20 Leads; Body 13.7 x 7.2 mm (LxW max); Pitch 1.27 mm; ComponentLink1Description: Manufacturer Link; ComponentLink1URL: http://www.national.com/; ComponentLink2Description: Datasheet; ComponentLink2URL: http://www.national.com/ds.cgi/54/54FCT245.pdf; ComponentLink3Description: URL Link1; ComponentLink3URL: http://www.national.com/pf/54/54FCT245.html
footprint W20A (DFP; 20 Leads; Body 13.7 x 7.2 mm (LxW max); Pitch 1.27 mm)
3D model W20A (DFP; 20 Leads; Body 13.7 x 7.2 mm (LxW max); Pitch 1.27 mm)
simulation model 74F245 (SIMCODE)
signal-integrity model 54FCT245FMQB
pins: 1 T/~{R} (in), 2 A0 (io), 3 A1 (io), 4 A2 (io), 5 A3 (io), 6 A4 (io), 7 A5 (io), 8 A6 (io), 9 A7 (io), 10 GND (power), 11 B7 (io), 12 B6 (io), 13 B5 (io), 14 B4 (io), 15 B3 (io), 16 B2 (io), 17 B1 (io), 18 B0 (io), 19 ~{OE} (in), 20 VCC (power)

## 54FCT245LMQB
designator U?
Octal Bidirectional Transceiver with Tri-State Output; Published: 15-Apr-2002; DatasheetVersion: Aug-1998; PackageVersion: 2000; PackageReference: E20A; Publisher: Altium Limited; PackageDescription: Leadless Chip Carrier; 20 Terminals; Body 8.9 x 8.9 mm; ComponentLink1Description: Manufacturer Link; ComponentLink1URL: http://www.national.com/; ComponentLink2Description: Datasheet; ComponentLink2URL: http://www.national.com/ds.cgi/54/54FCT245.pdf; ComponentLink3Description: URL Link1; ComponentLink3URL: http://www.national.com/pf/54/54FCT245.html
footprint E20A (Leadless Chip Carrier; 20 Terminals; Body 8.9 x 8.9 mm)
simulation model 74F245 (SIMCODE)
signal-integrity model 54FCT245LMQB
pins: 1 T/~{R} (in), 2 A0 (io), 3 A1 (io), 4 A2 (io), 5 A3 (io), 6 A4 (io), 7 A5 (io), 8 A6 (io), 9 A7 (io), 10 GND (power), 11 B7 (io), 12 B6 (io), 13 B5 (io), 14 B4 (io), 15 B3 (io), 16 B2 (io), 17 B1 (io), 18 B0 (io), 19 ~{OE} (in), 20 VCC (power)

## 74F243SC
designator U?
Quad Bus Transceiver with Tri-State Output; Published: 15-Apr-2002; LatestRevisionDate: 13-Apr-2006; LatestRevisionNote: IPC-7351 Footprint Added.; DatasheetVersion: Nov-1994; PackageVersion: 2000; PackageReference: M14A; Publisher: Altium Limited; PackageDescription: 14-Pin Small Outline Integrated Circuit 1.27 mm Pitch; Code_IPC: SOIC127P600-14; ComponentLink1Description: Manufacturer Link; ComponentLink1URL: http://www.national.com/; ComponentLink2Description: Datasheet; ComponentLink2URL: http://www.national.com/ds.cgi/54/54F243.pdf
footprint M14A_N (SOIC, 14-Leads, Body 8.6x3.9mm, Pitch 1.27mm, IPC Medium Density)
footprint M14A_L (SOIC, 14-Leads, Body 8.6x3.9mm, Pitch 1.27mm, IPC High Density)
footprint M14A_M (SOIC, 14-Leads, Body 8.6x3.9mm, Pitch 1.27mm, IPC Low Density)
3D model M14A (14-Pin Small Outline Integrated Circuit 1.27 mm Pitch)
simulation model 74F243 (SIMCODE)
signal-integrity model 74F243SC
pins: 1 ~{E}1 (in), 2 NC, 3 A0 (io), 4 A1 (io), 5 A2 (io), 6 A3 (io), 7 GND (power), 8 B3 (io), 9 B2 (io), 10 B1 (io), 11 B0 (io), 12 NC, 13 E2 (in), 14 VCC (power)

## 74F243SCX
designator U?
Quad Bus Transceiver with Tri-State Output; Published: 15-Apr-2002; LatestRevisionDate: 13-Apr-2006; LatestRevisionNote: IPC-7351 Footprint Added.; DatasheetVersion: Nov-1994; PackageVersion: 2000; PackageReference: M14A; Publisher: Altium Limited; PackageDescription: 14-Pin Small Outline Integrated Circuit 1.27 mm Pitch; Code_IPC: SOIC127P600-14; ComponentLink1Description: Manufacturer Link; ComponentLink1URL: http://www.national.com/; ComponentLink2Description: Datasheet; ComponentLink2URL: http://www.national.com/ds.cgi/54/54F243.pdf
footprint M14A_N (SOIC, 14-Leads, Body 8.6x3.9mm, Pitch 1.27mm, IPC Medium Density)
footprint M14A_L (SOIC, 14-Leads, Body 8.6x3.9mm, Pitch 1.27mm, IPC High Density)
footprint M14A_M (SOIC, 14-Leads, Body 8.6x3.9mm, Pitch 1.27mm, IPC Low Density)
3D model M14A (14-Pin Small Outline Integrated Circuit 1.27 mm Pitch)
simulation model 74F243 (SIMCODE)
signal-integrity model 74F243SCX
pins: 1 ~{E}1 (in), 2 NC, 3 A0 (io), 4 A1 (io), 5 A2 (io), 6 A3 (io), 7 GND (power), 8 B3 (io), 9 B2 (io), 10 B1 (io), 11 B0 (io), 12 NC, 13 E2 (in), 14 VCC (power)

## 74F245MSA
designator U?
Octal Bidirectional Transceiver with Tri-State Output; Published: 15-Apr-2002; LatestRevisionDate: 06-Jun-2005; LatestRevisionNote: Stylized 3D Model Added.; DatasheetVersion: Jun-1995; PackageVersion: 2000; PackageReference: MSA20; Publisher: Altium Limited; PackageDescription: SSOP; 20 Leads; Body Width 5.3 mm; Pitch 0.65 mm; ComponentLink1Description: Manufacturer Link; ComponentLink1URL: http://www.national.com/; ComponentLink2Description: Datasheet; ComponentLink2URL: http://www.fairchildsemi.com/ds/74/74F245.pdf; ComponentLink3Description: URL Link1; ComponentLink3URL: http://www.fairchildsemi.com/pf/74/74F245.html
footprint MSA20 (SSOP; 20 Leads; Body Width 5.3 mm; Pitch 0.65 mm)
3D model MSA20 (SSOP; 20 Leads; Body Width 5.3 mm; Pitch 0.65 mm)
simulation model 74F245 (SIMCODE)
signal-integrity model 74F245MSA
pins: 1 T/~{R} (in), 2 A0 (io), 3 A1 (io), 4 A2 (io), 5 A3 (io), 6 A4 (io), 7 A5 (io), 8 A6 (io), 9 A7 (io), 10 GND (power), 11 B7 (io), 12 B6 (io), 13 B5 (io), 14 B4 (io), 15 B3 (io), 16 B2 (io), 17 B1 (io), 18 B0 (io), 19 ~{OE} (in), 20 VCC (power)

## 74F245MSAX
designator U?
Octal Bidirectional Transceiver with Tri-State Output; Published: 15-Apr-2002; LatestRevisionDate: 06-Jun-2005; LatestRevisionNote: Stylized 3D Model Added.; DatasheetVersion: Jun-1995; PackageVersion: 2000; PackageReference: MSA20; Publisher: Altium Limited; PackageDescription: SSOP; 20 Leads; Body Width 5.3 mm; Pitch 0.65 mm; ComponentLink1Description: Manufacturer Link; ComponentLink1URL: http://www.national.com/; ComponentLink2Description: Datasheet; ComponentLink2URL: http://www.fairchildsemi.com/ds/74/74F245.pdf; ComponentLink3Description: URL Link1; ComponentLink3URL: http://www.fairchildsemi.com/pf/74/74F245.html
footprint MSA20 (SSOP; 20 Leads; Body Width 5.3 mm; Pitch 0.65 mm)
3D model MSA20 (SSOP; 20 Leads; Body Width 5.3 mm; Pitch 0.65 mm)
simulation model 74F245 (SIMCODE)
signal-integrity model 74F245MSAX
pins: 1 T/~{R} (in), 2 A0 (io), 3 A1 (io), 4 A2 (io), 5 A3 (io), 6 A4 (io), 7 A5 (io), 8 A6 (io), 9 A7 (io), 10 GND (power), 11 B7 (io), 12 B6 (io), 13 B5 (io), 14 B4 (io), 15 B3 (io), 16 B2 (io), 17 B1 (io), 18 B0 (io), 19 ~{OE} (in), 20 VCC (power)

## 74F245PC
designator U?
Octal Bidirectional Transceiver with Tri-State Output; Published: 15-Apr-2002; LatestRevisionDate: 06-Jun-2005; LatestRevisionNote: Stylized 3D Model Added.; DatasheetVersion: Jun-1995; PackageVersion: 2000; PackageReference: N20A; Publisher: Altium Limited; PackageDescription: DIP; 20 Leads; Row Spacing 7.62 mm; Pitch 2.54 mm; Code_JEDEC: MS-001-AD; ComponentLink1Description: Manufacturer Link; ComponentLink1URL: http://www.national.com/; ComponentLink2Description: Datasheet; ComponentLink2URL: http://www.fairchildsemi.com/ds/74/74F245.pdf; ComponentLink3Description: URL Link1; ComponentLink3URL: http://www.fairchildsemi.com/pf/74/74F245.html
footprint N20A (DIP; 20 Leads; Row Spacing 7.62 mm; Pitch 2.54 mm)
3D model N20A (DIP; 20 Leads; Row Spacing 7.62 mm; Pitch 2.54 mm)
simulation model 74F245 (SIMCODE)
signal-integrity model 74F245PC
pins: 1 T/~{R} (in), 2 A0 (io), 3 A1 (io), 4 A2 (io), 5 A3 (io), 6 A4 (io), 7 A5 (io), 8 A6 (io), 9 A7 (io), 10 GND (power), 11 B7 (io), 12 B6 (io), 13 B5 (io), 14 B4 (io), 15 B3 (io), 16 B2 (io), 17 B1 (io), 18 B0 (io), 19 ~{OE} (in), 20 VCC (power)